# EAGLE library part NCJ6FI-H (library con-neutrik_ag)
Neutrik Audio Connector
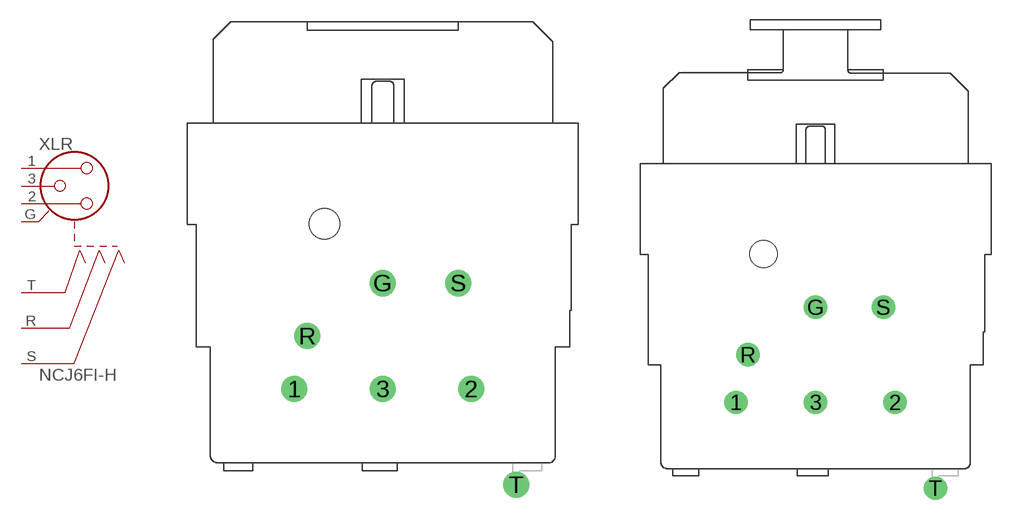
[diagram p2: symbol with the pads of NCJ6FI-H-O; footprints NCJ6FI-H-O, NCJ6FI-H]

Designator prefix XLR

## NCJ6FI-HNCJ6FI-H-O  [NCJ6FI-H-O]
1  1  pas
2  2  pas
3  3  pas
G  G  pas
R  R  pas
S  S  pas
T  T  pas

## NCJ6FI-HNCJ6FI-H  [NCJ6FI-H]
Pads as for NCJ6FI-H-O

## Footprint NCJ6FI-H-O (pad centres in mm)
Neutrik NCJ6FI-H-O Combo XLR/3 Pole Jack (non latching) Not Switched
drill 1.2 round: 1 -6.1,-6.97; 2 6.1,-6.97; 3 0,-6.97; G 0,0.33; R -5.2,-3.32; S 5.2,0.33; T 9.2,-13.57
hole 2.1 at -4,4.43

## Footprint NCJ6FI-H (pad centres in mm)
Neutrik NCJ6FI-H Combo XLR/3 Pole Jack (latching version) Not Switched
drill 1.2 round: 1 -7.37,-8.24; 2 4.83,-8.24; 3 -1.27,-8.24; G -1.27,-0.94; R -6.47,-4.59; S 3.93,-0.94; T 7.93,-14.84
hole 2.1 at -5.27,3.16